# Altium footprint library PCB - CONNECTOR - USB4105-GF-A.PCBLIB: 1 footprints
Each footprint in its own frame and in the unit in brackets; x right, y up, seen from the top. Pads: shape width x height; smd on the part's side, far side on the other; paste and mask are expansions set on the pad; w line width, h text height; cw(c..) or ccw(c..) is an arc to the next point about the centre after c.
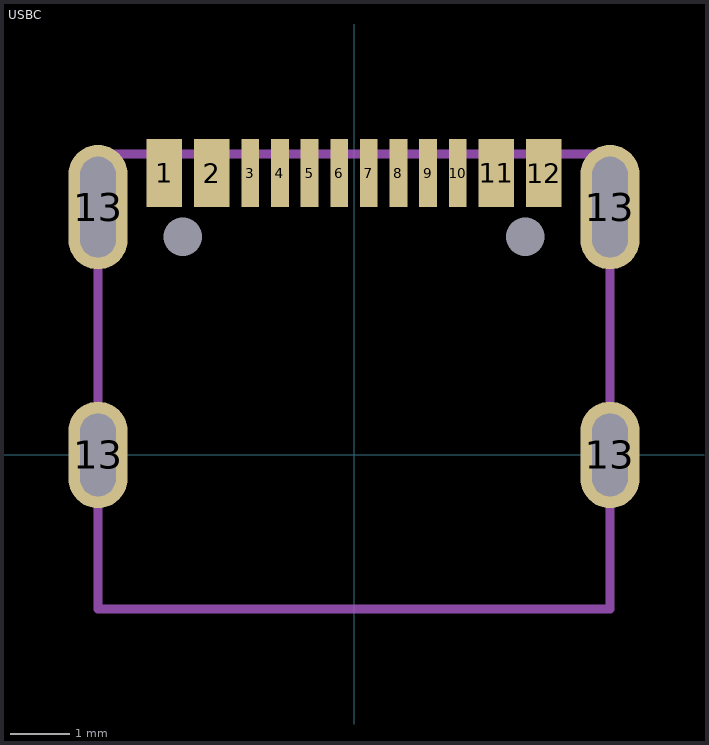
[diagram p0: the footprint, top view; thin cyan lines are the x and y axes]

## USBC [mm]
pads (18):
  rect 0.6x1.15 smd: 1(-3.2,4.755) 2(-2.4,4.755) 11(2.4,4.755) 12(3.2,4.755)
  rect 0.3x1.15 smd: 3(-1.75,4.755) 4(-1.25,4.755) 5(-0.75,4.755) 6(-0.25,4.755) 7(0.25,4.755) 8(0.75,4.755) 9(1.25,4.755) 10(1.75,4.755)
  oval 1x1.8 hole 0.6 slot 1.4 at 90 deg: 13(-4.32,0) 13(4.32,0)
  oval 1x2.1 hole 0.6 slot 1.7 at 90 deg: 13(-4.32,4.18) 13(4.32,4.18)
  round 0 hole 0.65 unplated: 24(2.89,3.68) 25(-2.89,3.68)
Top Assembly:
  lines w0.153: -4.445,5.08 4.318,5.08 4.32,5.078 4.32,-2.6 -4.32,-2.6 -4.32,4.951
3D body "USB4105-GF-A.stp": height 3.26, standoff -0.95, extent -4.47,-2.62 4.47,5.08